# Altium schematic symbol library Open_Rally_Computer.SCHLIB: 55 symbols
Pins are listed as number, name and electrical type; pins without a type are passive.

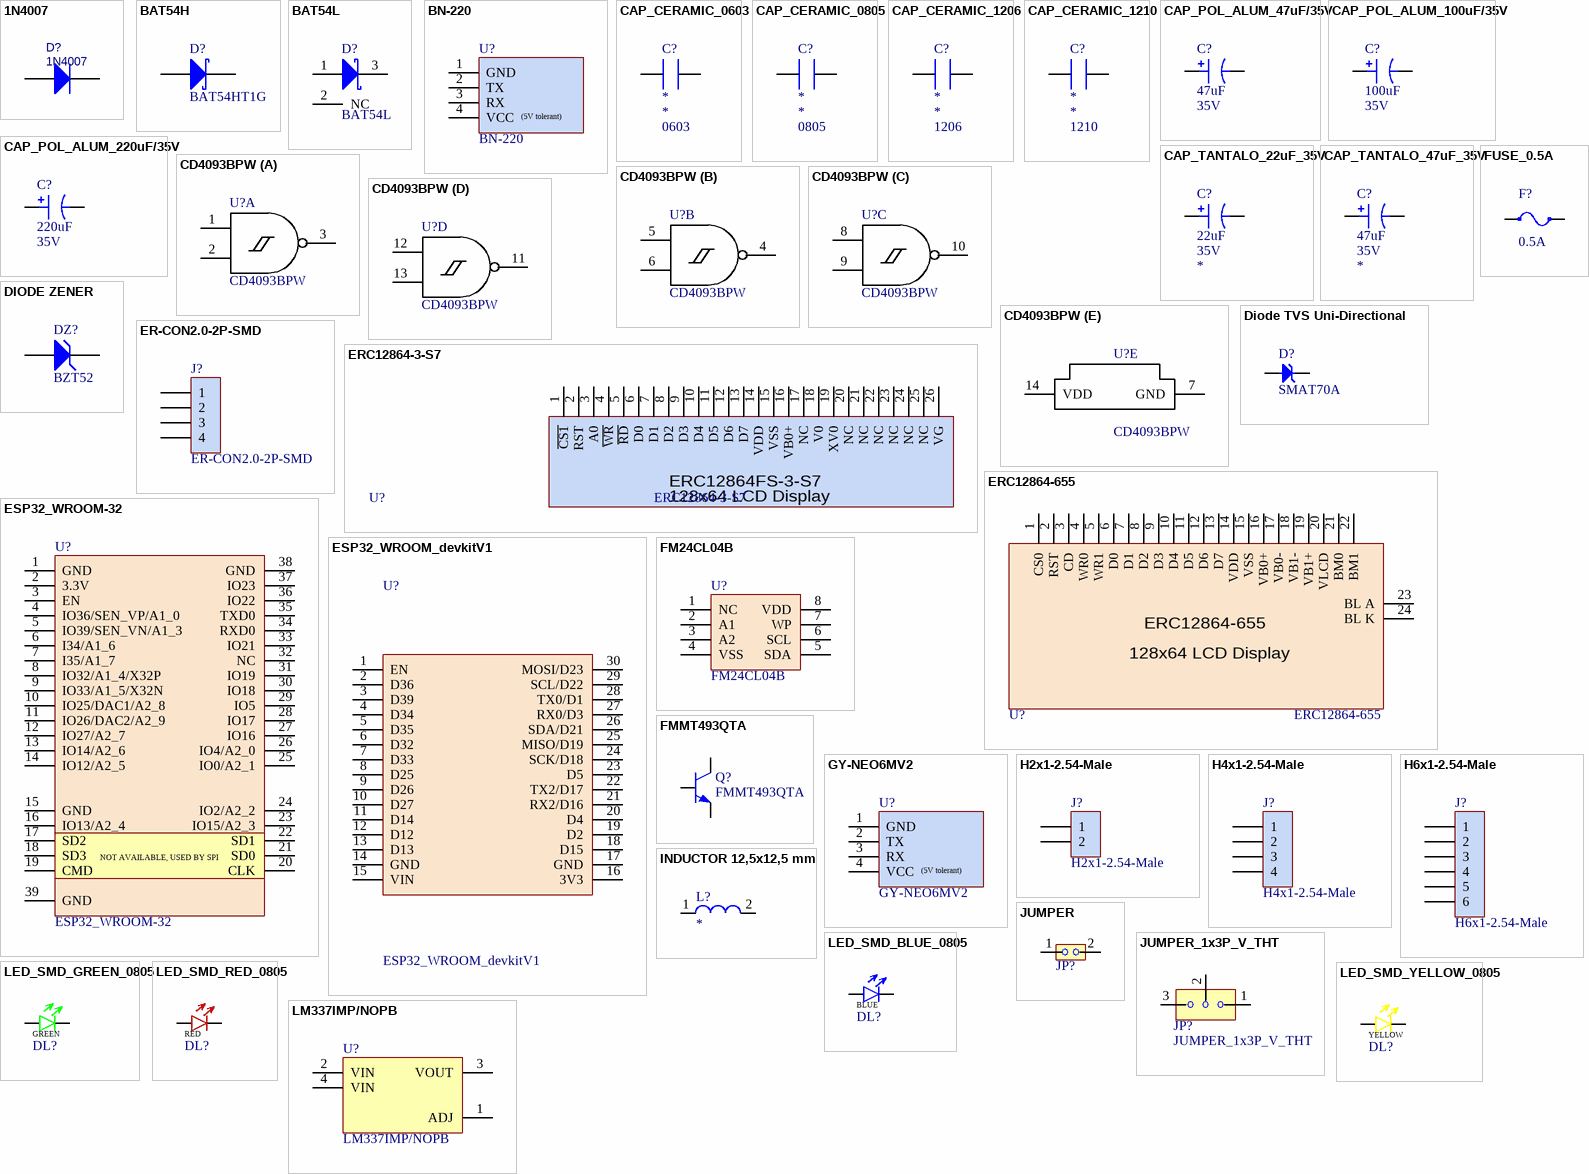
[diagram p0: symbols 1N4007 to LM337IMP/NOPB]

## 1N4007
designator D?
BOM_Manufacturer: Hottech; Contributor: LCSC; BOM_Supplier Part: C181127; BOM_Supplier: LCSC; BOM_Manufacturer Part: 1N4007; spicePre: D
footprint SOD-123F
pins: A, k K

## BAT54H
designator D?, comment BAT54HT1G
BAT54H, Schottky diode, 30v, 200mA SOD323; 03_Part Number: NSVBAT54HT1G; 04_Manufacturer: onsemi; Check Footprint: NO; 01_Type: DIODE; 02_Generic Part Number: BAT54H; 07_Mouser Part Number: 863-NSVBAT54HT1G; Case: SOD323; Check Symbol: NO; Value: BAT54HT1G
footprint SOD323
pins: 1 K, 2 A

## BAT54L
designator D?
Diodos y rectificadores Schottky 30V 200mW Single; 04_Manufacturer: Onsemi; 01_Type: DIODE SCHOTTKY; Value: BAT54L1G; Check Footprint: NO; 02_Generic Part Number: *; 03_Part Number: BAT54L; 05_RS Part Number: *; 06_Farnell Part Number: *; 07_Mouser Part Number: 863-BAT54LT1G; 08_Digi-Key Part Number: *; 09_helpURL: https://www.mouser.es/ProductDetail/onsemi/BAT54LT1G?qs=vLkC5FC1VN9WnG9k5eBnHQ%3D%3D; Check Symbol: NO
footprint SOT-23
pins: 1 A, 2 NC, 3 K

## BN-220
designator U?
Beitian UBX G7020 M8030 G-MOUSE supports GPS QZSS and SBAS; 01_Type: IC; 02_Generic Part Number: BN-220; 03_Part Number: BN-220; 04_Manufacturer: Beitian
footprint BN-220
pins: 1 GND, 2 TX, 3 RX, 4 VCC
text: (5V tolerant)

## CAP_CERAMIC_0603
designator C?  Case: 0603  (hidden comment: CAP_CERAMIC_0603)
Capacitor Ceramic 0603 No Polarized; 01_Type: CAPACITOR; 02_Generic Part Number: *; 03_Part Number: *; 04_Manufacturer: *; 05_RS Part Number: *; 06_Farnell Part Number: *; 07_Mouser Part Number: *; 08_Digi-Key Part Number: *; 09_helpURL: *; Check Footprint: NO; Check Symbol: NO; Value: *; Voltage: *
footprint C0603 (SMD-0603-CAP)
pins: 1, 2

## CAP_CERAMIC_0805
designator C?  Case: 0805  (hidden comment: CAP_CERAMIC_0805)
Capacitor Ceramic 0805 No Polarized; 01_Type: CAPACITOR; 02_Generic Part Number: *; 03_Part Number: *; 04_Manufacturer: *; 05_RS Part Number: *; 06_Farnell Part Number: *; 07_Mouser Part Number: *; 08_Digi-Key Part Number: *; 09_helpURL: *; Check Footprint: NO; Check Symbol: NO; Value: *; Voltage: *
footprint C0805 (SMD-0805-CAP)
pins: 1, 2

## CAP_CERAMIC_1206
designator C?  Case: 1206  (hidden comment: CAP_CERAMIC_1206)
Capacitor Ceramic 1206 No Polarized; 01_Type: CAPACITOR; 02_Generic Part Number: *; 03_Part Number: *; 04_Manufacturer: *; 05_RS Part Number: *; 06_Farnell Part Number: *; 07_Mouser Part Number: *; 08_Digi-Key Part Number: *; 09_helpURL: *; Check Footprint: NO; Check Symbol: NO; Value: *; Voltage: *
footprint C1206 (SMD-1206-CAP)
pins: 1, 2

## CAP_CERAMIC_1210
designator C?  Case: 1210  (hidden comment: CAP_CERAMIC_1210)
Capacitor Ceramic 1210 No Polarized; 01_Type: CAPACITOR; 02_Generic Part Number: *; 03_Part Number: *; 04_Manufacturer: *; 05_RS Part Number: *; 06_Farnell Part Number: *; 07_Mouser Part Number: *; 08_Digi-Key Part Number: *; 09_helpURL: *; Check Footprint: NO; Check Symbol: NO; Value: *; Voltage: *
footprint C1210 (SMD-1210-CAP)
pins: 1, 2

## CAP_POL_ALUM_47uF/35V
designator C?  value 47uF  Voltage: 35V  (hidden comment: CAP_POL_ALUM_47uF/35V)
Condensadores de aluminio con polímero orgánico 35Volt 47uF SMD 2KHr ESR=31 mOhms; 03_Part Number: A767KN476M1VLAE031; 04_Manufacturer: KEMET; 01_Type: CAPACITOR; ESR: 31 mOhm; Check Footprint: NO; 02_Generic Part Number: *; 05_RS Part Number: *; 06_Farnell Part Number: *; 07_Mouser Part Number: 80-A767KN476M1VLAE31; 08_Digi-Key Part Number: *; 09_helpURL: https://www.mouser.es/ProductDetail/KEMET/A767KN476M1VLAE031?qs=M6jHmRuQorXLXzCa4QAcmg%3D%3D; Case: *; Check Symbol: NO
footprint ALU-f
pins: 1, 2

## CAP_POL_ALUM_100uF/35V
designator C?  value 100uF  Voltage: 35V  (hidden comment: CAP_POL_ALUM_100uF/35V)
Condensadores de aluminio con polímero orgánico 35Vol 100uF SMD 2KHr ESR=29 mOhms; 03_Part Number: A767MU107M1VLAE029; 04_Manufacturer: KEMET; 01_Type: CAPACITOR; ESR: 29 mOhm; Check Footprint: NO; 02_Generic Part Number: *; 05_RS Part Number: *; 06_Farnell Part Number: *; 07_Mouser Part Number: 80-A767MU107M1VLAE29; 08_Digi-Key Part Number: *; 09_helpURL: https://www.mouser.es/ProductDetail/KEMET/A767MU107M1VLAE029?qs=M6jHmRuQorWXZ5S%2Fiuki7w%3D%3D; Case: *; Check Symbol: NO
footprint ALU-G
pins: 1, 2

## CAP_POL_ALUM_220uF/35V
designator C?  value 220uF  Voltage: 35V  (hidden comment: CAP_POL_ALUM_220uF/35V)
Condensadores de aluminio con polímero orgánico 35Vol 220uF SMD 2KHr ESR=28 mOhms; 03_Part Number: A767MU227M1VLAE028; 04_Manufacturer: KEMET; 01_Type: CAPACITOR; ESR: 28 mOhm; Check Footprint: NO; 02_Generic Part Number: *; 05_RS Part Number: *; 06_Farnell Part Number: *; 07_Mouser Part Number: 80-A767MU227M1VLAE28; 08_Digi-Key Part Number: *; 09_helpURL: https://www.mouser.es/ProductDetail/KEMET/A767MU227M1VLAE028?qs=M6jHmRuQorXHRaPh7tbgIw%3D%3D; Case: *; Check Symbol: NO
footprint ALU-G
pins: 1, 2

## CAP_TANTALO_22uF_35V
designator C?  value 22uF  Voltage: 35V  (hidden comment: CAP_TANTALO_22uF_35V)
Capacitadores de tantalio - SMD sólido 35V 22uF 10% 2917 ESR= 60 mOhm; 03_Part Number: TPME226K035R0060; 04_Manufacturer: KYOCERA AVX; 01_Type: CAPACITOR; Check Footprint: NO; 02_Generic Part Number: *; 05_RS Part Number: *; 06_Farnell Part Number: *; 07_Mouser Part Number: 581-TPME226K035R0060; 08_Digi-Key Part Number: 478-3305-1-ND; 09_helpURL: *; Check Symbol: NO; Case: *
footprint C2917_POL_(CASE_D,E) (SMD-2917-CAP_POL_(CASE D,E))
pins: 1, 2

## CAP_TANTALO_47uF_35V
designator C?  value 47uF  Voltage: 35V  (hidden comment: CAP_TANTALO_47uF_35V)
Capacitadores de tantalio - SMD sólido 35V 47uF 10% 2917 ESR= 55 mOhm; 03_Part Number: TPME476K035R0055; 04_Manufacturer: KYOCERA AVX; 01_Type: CAPACITOR; Check Footprint: NO; 02_Generic Part Number: *; 05_RS Part Number: *; 06_Farnell Part Number: *; 07_Mouser Part Number: 581-TPME476K035R0055; 08_Digi-Key Part Number: *; 09_helpURL: *; Check Symbol: NO; Case: *
footprint C2917_POL_(CASE_D,E) (SMD-2917-CAP_POL_(CASE D,E))
pins: 1, 2

## CD4093BPW
designator U?
NAND Gate IC 4 Channel 14-TSSOP; 04_Manufacturer: Texas Instruments; Check Footprint: NO; 09_helpURL: https://www.digikey.es/es/products/detail/texas-instruments/CD4093BPW/525964; 01_Type: IC; 02_Generic Part Number: *; 03_Part Number: CD4093BPW; 05_RS Part Number: *; 06_Farnell Part Number: *; 07_Mouser Part Number: *; Value: CD4093BPW; 08_Digi-Key Part Number: 296-14146-5-ND; Check Symbol: NO
footprint TSSOP-14
part A pins: 1 A, 2 B, 3 J
part B pins: 4 K, 5 C, 6 D
part C pins: 8 E, 9 F, 10 L
part D pins: 11 M, 12 G, 13 H
part E pins: 7 GND, 14 VDD

## Diode TVS Uni-Directional
designator D?, comment SMAT70A
TVS DIODE 70V 400W SMA; 03_Part Number: SMAT70A-13-F; 04_Manufacturer: Diodes Incorporated; Check Footprint: NO; 01_Type: DIODE; 02_Generic Part Number: *; 05_RS Part Number: *; 06_Farnell Part Number: *; 07_Mouser Part Number: *; 08_Digi-Key Part Number: SMAT70A-FDITR-ND; 09_helpURL: https://www.digikey.es/es/products/detail/diodes-incorporated/SMAT70A-13-F/804884; Value: SMAT70A; Check Symbol: NO
footprint DO-214AC (DO-214AC, SMA)
pins: A, K

## DIODE ZENER
designator DZ?, comment BZT52
General-purpose Zener diode, 500mW, 2.4V to 75V, SOD123 package; 04_Manufacturer: Nexperia; 02_Generic Part Number: BZT52 Series; 01_Type: DIODE ZENER; Check Footprint: NO; 03_Part Number: *; 05_RS Part Number: *; 06_Farnell Part Number: *; 07_Mouser Part Number: *; 09_helpURL: *; 08_Digi-Key Part Number: *; Value: *; Check Symbol: NO
footprint SOD123_AK
pins: A, K

## ER-CON2.0-2P-SMD
designator J?
2pin 2mm pitch smd connector; 01_Type: Connectors
footprint ER-CON2.0-2P-SMD
pins: 1 (power), 2 (power), 3 (power), 4 (power)

## ERC12864-3-S7
designator U?
2.9"COG LCD Module 128x64 Display Arduino,ST7567S,Black on White; 02_Generic Part Number: ERC12864-655; 04_Manufacturer: EastRising; 01_Type: IC; 03_Part Number: ERC12864-655; 09_helpURL: https://www.buydisplay.com/2-8-inch-128x64-graphic-module-serial-display-spi-lcd-w-optl-touch-screen
footprint ER-CON26HB-1
pins: 1 ~{CS1}, 2 RST, 3 A0, 4  ~{WR}, 5 ~{RD}, 6 D0, 7 D1, 8 D2, 9 D3, 10 D4, 11 D5, 12 D6, 13 D7, 14 VDD, 15 VSS, 16 VB0+, 17 NC, 18 V0, 19 XV0, 20 NC, 21 NC, 22 NC, 23 NC, 24 NC, 25 NC, 26 VG
text: ERC12864FS-3-S7; 128x64 LCD Display

## ERC12864-655
designator U?
2.8"128x64 Graphic Module Serial Display SPI LCD w/OPTL Touch Screen; 04_Manufacturer: EastRising; 01_Type: IC; 02_Generic Part Number: ERC12864-655; 03_Part Number: ERC12864-655; 09_helpURL: https://www.buydisplay.com/2-8-inch-128x64-graphic-module-serial-display-spi-lcd-w-optl-touch-screen
footprint ERC12864-655
pins: 1 CS0, 2 RST, 3 CD, 4 WR0, 5 WR1, 6 D0, 7 D1, 8 D2, 9 D3, 10 D4, 11 D5, 12 D6, 13 D7, 14 VDD, 15 VSS, 16 VB0+, 17 VB0-, 18 VB1-, 19 VB1+, 20 VLCD, 21 BM0, 22 BM1, 23 BL A, 24 BL K
text: 128x64 LCD Display

## ESP32_WROOM-32
designator U?
Módulos multiprotocolo SMD Module ESP32-WROOM-32E, ESP32-D0WD-V3, 16 MB SPI flash, PCB antenna; 03_Part Number: ESP32-WROOM-32E-N16; 04_Manufacturer: Espressif Systems; 01_Type: IC; 02_Generic Part Number: ESP32-WROOM-32; 07_Mouser Part Number: 356-ESP32WRM32E128PH; 09_helpURL: https://docs.espressif.com/projects/esp-idf/en/latest/esp32/hw-reference/esp32/get-started-devkitc.html
footprint ESP32_WROOM_32S
pins: 1 GND, 2 3.3V, 3 EN, 4 IO36/SEN_VP/A1_0, 5 IO39/SEN_VN/A1_3, 6 I34/A1_6, 7 I35/A1_7, 8 IO32/A1_4/X32P, 9 IO33/A1_5/X32N, 10 IO25/DAC1/A2_8, 11 IO26/DAC2/A2_9, 12 IO27/A2_7, 13 IO14/A2_6, 14 IO12/A2_5, 15 GND, 16 IO13/A2_4, 17 SD2, 18 SD3, 19 CMD, 20 CLK, 21 SD0, 22 SD1, 23 IO15/A2_3, 24 IO2/A2_2, 25 IO0/A2_1, 26 IO4/A2_0, 27 IO16, 28 IO17, 29 IO5, 30 IO18, 31 IO19, 32 NC, 33 IO21, 34 RXD0, 35 TXD0, 36 IO22, 37 IO23, 38 GND, 39 GND
text: NOT AVAILABLE, USED BY SPI

## ESP32_WROOM_devkitV1
designator U?
Módulos multiprotocolo SMD Module ESP32-WROOM-32E, ESP32-D0WD-V3, 16 MB SPI flash, PCB antenna; 03_Part Number: ESP32-WROOM-32E-N16; 04_Manufacturer: Espressif Systems; 01_Type: IC; 02_Generic Part Number: ESP32-WROOM; 07_Mouser Part Number: 356-ESP32WRM32E128PH; 09_helpURL: https://docs.espressif.com/projects/esp-idf/en/latest/esp32/hw-reference/esp32/get-started-devkitc.html
footprint ESP32_WROOM_32S_devkitV1
pins: 1 EN, 2 D36, 3 D39, 4 D34, 5 D35, 6 D32, 7 D33, 8 D25, 9 D26, 10 D27, 11 D14, 12 D12, 13 D13, 14 GND, 15 VIN, 16 3V3, 17 GND, 18 D15, 19 D2, 20 D4, 21 RX2/D16, 22 TX2/D17, 23 D5, 24 SCK/D18, 25 MISO/D19, 26 SDA/D21, 27 RX0/D3, 28 TX0/D1, 29 SCL/D22, 30 MOSI/D23

## FM24CL04B
designator U?
F-RAM 4Kb Serial I2C 3V FRAM; 03_Part Number: FM24CL04B-GTR; 04_Manufacturer: Infineon Technologies; 01_Type: IC; 02_Generic Part Number: FM24CL04B; 07_Mouser Part Number: 877-FM24CL04B-GTR
footprint SOIC-8N (SOIC 8, Pitch 1.27mm - Body 4x5mm, IPC Medium Density)
pins: 1 NC, 2 A1, 3 A2, 4 VSS, 5 SDA, 6 SCL, 7 WP, 8 VDD

## FMMT493QTA
designator Q?
Transistores bipolares - BJT 100V NPN Med PWR 1A Ic 2A Icm 500mW; 04_Manufacturer: Diodes Incorporated; 01_Type: BJT-P; Check Footprint: NO; 03_Part Number: FMMT493QTA; 07_Mouser Part Number: 621-FMMT493QTA; Value: FMMT493QTA; Check Symbol: NO
footprint SOT-23
pins: 1 B, 2 E, 3 C

## FUSE_0.5A
designator F?, comment 0.5A
Fusibles de montaje en superficie SLOW-BLOW MULTILAYER .5A AUTO; 03_Part Number: SF-1206SA050M-2; 04_Manufacturer: Bourns; 01_Type: FUSE; Check Footprint: NO; 07_Mouser Part Number: 652-SF-1206SA050M-2; Check Symbol: NO
footprint R1206 (SMD-1206-RES)
pins: 1, 2

## GY-NEO6MV2
designator U?
uBlox Neo 6M breakout board; 04_Manufacturer: Beitian; 01_Type: IC; 02_Generic Part Number: GY-NEO6MV2; 03_Part Number: GY-NEO6MV2
footprint GY-NEO6MV2
pins: 1 GND, 2 TX, 3 RX, 4 VCC
text: (5V tolerant)

## H2x1-2.54-Male
designator J?
Header male 2x1 2.54mm; 01_Type: Connectors
footprint HDR_P254_2x1 (Header,vertical,2.54mm pitch;0.635mm lead width,2 pins,1 row,2 pins per row,5.10mm L X 2.54mm W X 6.84mm H body)
pins: 1 (power), 2 (power)

## H4x1-2.54-Male
designator J?
Header male 4x1 2.54mm; 01_Type: Connectors
footprint HDR_P254_4x1 (Header,vertical,2.54mm pitch;0.635mm lead width,2 pins,1 row,2 pins per row,5.10mm L X 2.54mm W X 6.84mm H body)
pins: 1 (power), 2 (power), 3 (power), 4 (power)

## H6x1-2.54-Male
designator J?
Header female 6x1 2.54mm; 01_Type: Connectors
footprint HDR_P254_6x1 (Header,vertical,2.54mm pitch;0.635mm lead width,2 pins,1 row,2 pins per row,5.10mm L X 2.54mm W X 6.84mm H body)
pins: 1 (power), 2 (power), 3 (power), 4 (power), 5 (power), 6 (power)

## INDUCTOR 12,5x12,5 mm
designator L?
FIXED IND SMD 12,5X12,5 mm; 01_Type: INDUCTOR; Check Footprint: NO; 02_Generic Part Number: *; 03_Part Number: *; 04_Manufacturer: *; 05_RS Part Number: *; 06_Farnell Part Number: *; 07_Mouser Part Number: *; 08_Digi-Key Part Number: *; 09_helpURL: *; Value: *; Check Symbol: NO
footprint IND_WURTH_WE-HCC_1210 (SMD High Current Cube Inductor (WE-HCC Series), Body 12.4x11.7mm)
pins: 1, 2

## JUMPER
designator JP?  (value not drawn)
Low-profile Circuit Jumper Connectors. Double row.; 03_Part Number: 67996-202HLF; 04_Manufacturer: Amphenol FCI; Check Footprint: NO; Value: *; 01_Type: JUMPER; 02_Generic Part Number: *; 05_RS Part Number: *; 06_Farnell Part Number: *; 07_Mouser Part Number: 649-67996-202HLF; 08_Digi-Key Part Number: *; 09_helpURL: https://www.mouser.es/ProductDetail/Amphenol-FCI/67996-202HLF?qs=p7Li5uGGkArMLPb%2FcgwrjQ%3D%3D; Check Symbol: NO
footprint HDRV2W64P254_1X2_510X280X684P (Header,vertical,2.54mm pitch;0.635mm lead width,2 pins,1 row,2 pins per row,5.10mm L X 2.54mm W X 6.84mm H body)
pins: 1, 2

## JUMPER_1x3P_V_THT
designator JP?
JUMPER HEADER 3POS SINGLE ROW 2,54mm THT Vertical; 03_Part Number: 0901200763; 04_Manufacturer: Molex; Check Footprint: NO; 02_Generic Part Number: *; 06_Farnell Part Number: *; 05_RS Part Number: *; 08_Digi-Key Part Number: WM8085-ND; 07_Mouser Part Number: *; 01_Type: JUMPER; 09_helpURL: https://www.digikey.es/es/products/detail/molex/0901200763/760800?s=N4IgTCBcDaIJwAYCMYEFoEHYBsBmEAugL5A; Value: JUMPER_1x3P_V_THT; Check Symbol: NO
footprint Header 1x03x2.54 Pin TH V (1x3x2.54 Pin Header TH V)
pins: 1, 2, 3

## LED_SMD_BLUE_0805
designator DL?  (value not drawn)
LED SMD 15deg Clear 0805 4mcd BLUE; 03_Part Number: 150080BS75000; 04_Manufacturer: Würth Elektronik; 01_Type: LED DIODE; Check Footprint: NO; 05_RS Part Number: *; 06_Farnell Part Number: *; 07_Mouser Part Number: *; 02_Generic Part Number: *; 08_Digi-Key Part Number: 732-4982-1-ND; Case: 0805; Value: BLUE; Check Symbol: NO
footprint LED_0805_BLUE
pins: A, C

## LED_SMD_GREEN_0805
designator DL?  (value not drawn)
LED SMD 15deg Clear 0805 4mcd GREEN; 03_Part Number: APHCM2012CGCK-F01; 04_Manufacturer: Kingbright; 01_Type: LED DIODE; Check Footprint: NO; 05_RS Part Number: *; 06_Farnell Part Number: *; 07_Mouser Part Number: *; 02_Generic Part Number: *; Case: 0805; 08_Digi-Key Part Number: 754-1094-1-ND; Value: GREEN; Check Symbol: NO
footprint LED_0805_GREEN
pins: A, C

## LED_SMD_RED_0805
designator DL?  (value not drawn)
LED SMD 15deg Clear 0805 4mcd RED; 03_Part Number: 150080RS75000; 04_Manufacturer: Würth Elektronik; 01_Type: LED DIODE; Check Footprint: NO; 05_RS Part Number: *; 06_Farnell Part Number: *; 07_Mouser Part Number: *; 02_Generic Part Number: *; Case: 0805; 08_Digi-Key Part Number: 732-4984-2-ND; Value: RED; Check Symbol: NO
footprint LED_0805_RED
pins: A, C

## LED_SMD_YELLOW_0805
designator DL?  (value not drawn)
LED SMD 15deg Clear 0805 4mcd YELLOW; 03_Part Number: 150080YS7500; 04_Manufacturer: Würth Elektronik; 01_Type: LED DIODE; Check Footprint: NO; 05_RS Part Number: *; 06_Farnell Part Number: *; 07_Mouser Part Number: *; 02_Generic Part Number: *; 08_Digi-Key Part Number: 732-4987-2-ND; Check Symbol: NO; Case: 0805; Value: YELLOW
footprint LED_0805_YELLOW
pins: A, C

## LM337IMP/NOPB
designator U?
1.2V to 37V, 1500mA Adjustable Negative Voltage, SOT-223 Package; 04_Manufacturer: Texas Instruments; 01_Type: REGULATOR; Check Footprint: NO; 02_Generic Part Number: *; 03_Part Number: LM337IMP/NOPB; 05_RS Part Number: *; 06_Farnell Part Number: *; 07_Mouser Part Number: *; 08_Digi-Key Part Number: *; 09_helpURL: *; Value: LM337IMP/NOPB; Part Number: LM337IMP/NOPB; Component Kind: Standard; Case: SOT-223; ComponentHeight: 1.75mm; Check Symbol: NO
footprint SOT-223-4
pins: 1 ADJ, 2 VIN, 3 VOUT, 4 VIN

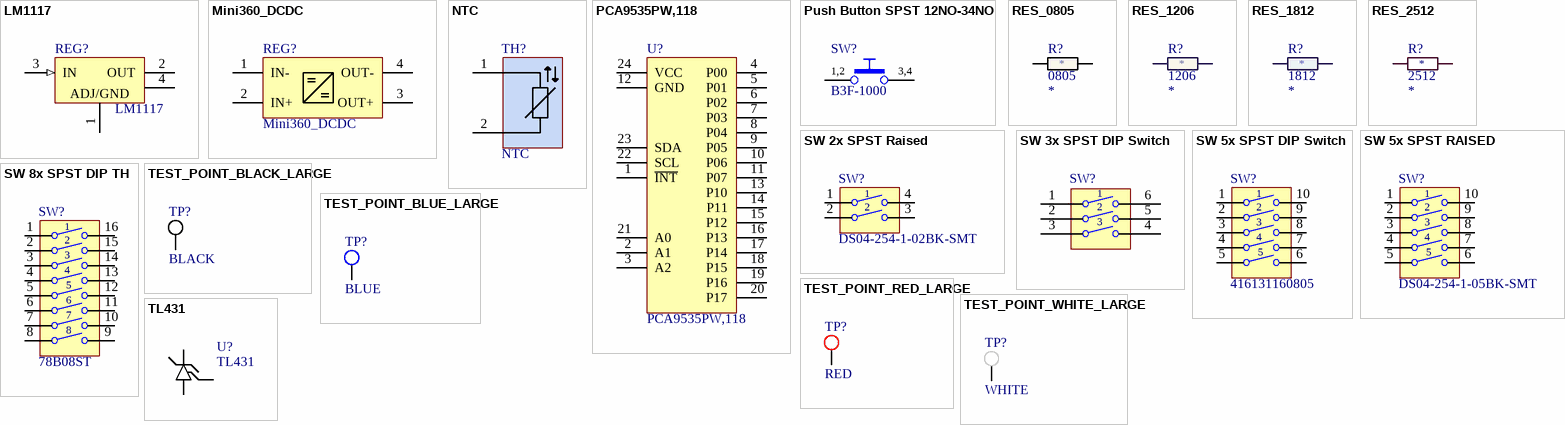
[diagram p1: symbols LM1117 to TL431]

## LM1117
designator REG?
Reguladores de voltaje LDO 800MA LDO LINEAR REG; 03_Part Number: LM1117MPX-3.3/NOPB; 04_Manufacturer: TEXAS INSTRUMENTS; 01_Type: Regulators; 02_Generic Part Number: LM1117; 07_Mouser Part Number: 926-LM1117MPX3.3NOPB; Value: LM1117; Component Kind: Standard; Footprint: SOT-223-4
footprint SOT-223-4
pins: 1 ADJ (power), 2 OUT (power), 3 IN (in), 4 OUT (power)
text: ADJ/GND

## Mini360_DCDC
designator REG?
Mini360 DC-DC Buck Converter Step Down Power Supply Module 4.75V-23V to 1V-17V 340KHz; 01_Type: Regulators; 02_Generic Part Number: Mini360_DCDC
footprint Mini360-DCDC
pins: 1 IN- (power), 2 IN+ (power), 3 OUT+ (power), 4 OUT- (power)

## NTC
designator TH?
NTC thermistor; 01_Type: Connector
footprint HDR_P254_2x1 (Header,vertical,2.54mm pitch;0.635mm lead width,2 pins,1 row,2 pins per row,5.10mm L X 2.54mm W X 6.84mm H body)
pins: 1 (power), 2 (power)

## PCA9535PW,118
designator U?
Interfaz. Extensores de E/S 16-BIT I2C FM TP GPIO INT; 04_Manufacturer: NXP Semiconductors; 01_Type: IC; 02_Generic Part Number: PCA9535; 03_Part Number: PCA9535PW,118; 07_Mouser Part Number: 771-PCA9535PW-T; Value: PCA9535PW,118
footprint TSSOP24 (TSSOP24, 0.65 pitch)
pins: 1 ~{INT}, 2 A1, 3 A2, 4 P00, 5 P01, 6 P02, 7 P03, 8 P04, 9 P05, 10 P06, 11 P07, 12 GND, 13 P10, 14 P11, 15 P12, 16 P13, 17 P14, 18 P15, 19 P16, 20 P17, 21 A0, 22 SCL, 23 SDA, 24 VCC

## Push Button SPST 12NO-34NO
designator SW?, comment B3F-1000
Push button switch, 24VDC 50mA SPST-NO (h=4.5mm); 04_Manufacturer: OMRON; Check Footprint: NO; 01_Type: SWITCH; 02_Generic Part Number: *; 03_Part Number: B3F-1000; 05_RS Part Number: *; 06_Farnell Part Number: *; 07_Mouser Part Number: *; 08_Digi-Key Part Number: SW400-ND; 09_helpURL: https://www.digikey.es/es/products/detail/omron-electronics-inc-emc-div/B3F-1000/33150; Value: B3F-1000; Check Symbol: NO
footprint PB_OMRON_B3F-1000 (6x6mm Model, Horizontal, Flat Plunger Type (without Ground Terminal) Pushbutton Switch, OMRON B3F Series)
pins: 1, 2, 3, 4
text: 1,2; 3,4

## RES_0805
designator R?  Case: 0805  (hidden comment: RES_0805)
Resistor 0805; Check Footprint: NO; 01_Type: RESISTOR; 02_Generic Part Number: *; 03_Part Number: *; 04_Manufacturer: *; 05_RS Part Number: *; 06_Farnell Part Number: *; 07_Mouser Part Number: *; 08_Digi-Key Part Number: *; 09_helpURL: *; Power: *; Check Symbol: NO; Value: *; Tolerance: *
footprint R0805 (SMD-0805-RES)
pins: 1, 2

## RES_1206
designator R?  Case: 1206  (hidden comment: RES_1206)
Resistor 1206; Check Footprint: NO; 01_Type: RESISTOR; 02_Generic Part Number: *; 03_Part Number: *; 04_Manufacturer: *; 05_RS Part Number: *; 06_Farnell Part Number: *; 07_Mouser Part Number: *; 08_Digi-Key Part Number: *; Power: *; 09_helpURL: *; Check Symbol: NO; Tolerance: *; Value: *
footprint R1206 (SMD-1206-RES)
pins: 1, 2

## RES_1812
designator R?  Case: 1812  (hidden comment: RES_1812)
Resistor 1812; Check Footprint: NO; 01_Type: RESISTOR; 02_Generic Part Number: *; 03_Part Number: *; 04_Manufacturer: *; 05_RS Part Number: *; 06_Farnell Part Number: *; 07_Mouser Part Number: *; 08_Digi-Key Part Number: *; Power: *; 09_helpURL: *; Check Symbol: NO; Tolerance: *; Value: *
footprint R1812 (Chip Resistor; Body 4.5 x 3.2 mm (LxW typ))
pins: 1, 2

## RES_2512
designator R?  Case: 2512  (hidden comment: RES_2512)
Resistor 2512; Check Footprint: NO; 01_Type: RESISTOR; 02_Generic Part Number: *; 03_Part Number: *; 04_Manufacturer: *; 05_RS Part Number: *; 06_Farnell Part Number: *; 07_Mouser Part Number: *; 08_Digi-Key Part Number: *; Power: *; 09_helpURL: *; Check Symbol: NO; Tolerance: *; Value: *
footprint R2512 (SMD-2512-RES)
pins: 1, 2

## SW 2x SPST Raised
designator SW?, comment DS04-254-1-02BK-SMT
SIP DIP Switch, SPST, 2.54 pitch, Raised actuator, SMT, 2 position, Blac; 04_Manufacturer: CUI Devices; Check Footprint: NO; 01_Type: SWITCH; 02_Generic Part Number: *; 03_Part Number: DS04-254-1-02BK-SMT; 05_RS Part Number: *; 06_Farnell Part Number: *; 07_Mouser Part Number: *; 08_Digi-Key Part Number: 2223-DS04-254-1-02BK-SMT-ND; 09_helpURL: https://www.digikey.es/es/products/detail/cui-devices/DS04-254-1-02BK-SMT/11310930?s=N4IgTCBcDaICIGUAMAWAtGArOgjGpYAQgNJoICyAKiALoC%2BQA; Value: DS04-254-1-02BK-SMT; Check Symbol: NO
footprint DS04-254-1-02BK-SMT (Switch, SPST, 2.54 pitch, Raised actuator, SMT, 2 position, Black)
pins: 1, 2, 3, 4

## SW 3x SPST DIP Switch
designator SW?
3 Way SPST SMD DIP, Flat, 100mA 50VDC, 1.27mm pitch; 03_Part Number: 416131160803; 04_Manufacturer: Wurth Elektronik; 01_Type: SWITCH; 07_Mouser Part Number: 710-416131160803
footprint 416131160803 (SMD Dip Switch, Small Compact, Raised Actuator, 3pin)
pins: 1, 2, 3, 4, 5, 6

## SW 5x SPST DIP Switch
designator SW?, comment 416131160805
5 Way SPST SMD DIP, Flat, 25mA 24VDC, 1.27mm pitch; 04_Manufacturer: Wurth Elektronik; 01_Type: SWITCH; Check Footprint: NO; 02_Generic Part Number: *; 03_Part Number: 416131160805; 05_RS Part Number: *; 06_Farnell Part Number: *; 07_Mouser Part Number: 710-416131160805; 08_Digi-Key Part Number: *; 09_helpURL: https://www.mouser.es/ProductDetail/Wurth-Elektronik/416131160805?qs=2kOmHSv6VfT1rqUsojuQog%3D%3D; Value: 416131160805; Check Symbol: NO
footprint SW_5P WURTH (Pitch 1.27mm,  5 Ways SPST Surface-Mount DIP Switch,)
pins: 1, 2, 3, 4, 5, 6, 7, 8, 9, 10

## SW 5x SPST RAISED
designator SW?, comment DS04-254-1-05BK-SMT
SIP DIP Switch, SPST, 2.54 pitch, Raised actuator, SMT, 5 position, Blac; 04_Manufacturer: CUI Devices; Check Footprint: NO; 01_Type: SWITCH; 02_Generic Part Number: *; 03_Part Number: DS04-254-1-05BK-SMT; 05_RS Part Number: *; 06_Farnell Part Number: *; 07_Mouser Part Number: 490-DS04254105BK-SMT; 08_Digi-Key Part Number: *; 09_helpURL: https://www.mouser.es/ProductDetail/CUI-Devices/DS04-254-1-05BK-SMT?qs=wnTfsH77Xs5Ndj%252Bt08dChA%3D%3D; Value: DS04-254-1-05BK-SMT; Check Symbol: NO
footprint SW_DS04-254-1-05BK-SMT (Switch, SPST, 2.54 pitch, Raised actuator, SMT, 5 position, Black)
pins: 1, 2, 3, 4, 5, 6, 7, 8, 9, 10

## SW 8x SPST DIP TH
designator SW?, comment 78B08ST
8 Way SPST TH DIP, Latch, 150mA 30VDC, 2.5mm pitch; 04_Manufacturer: Grayhill Inc.; 01_Type: SWITCH; Check Footprint: NO; 02_Generic Part Number: *; 03_Part Number: 78B08ST; 05_RS Part Number: *; 06_Farnell Part Number: *; 07_Mouser Part Number: *; 08_Digi-Key Part Number: GH7192-ND; 09_helpURL: https://www.digikey.es/es/products/detail/grayhill-inc/78B08ST/726250?s=N4IgTCBcDaIOwA4BCAGBBlAKiAugXyA; Value: 78B08ST; Check Symbol: NO
footprint SW_DIP_TH_8POS (MICROSWITCH 16 - MICROSWITCH DE 16 PINES SWITCHEA 1.16 SEGUN IPC-D-275 PARA CRISA_INDUSTRIA CREADO POR CARLOS VARELA)
pins: 1, 2, 3, 4, 5, 6, 7, 8, 9, 10, 11, 12, 13, 14, 15, 16

## TEST_POINT_BLACK_LARGE
designator TP?, comment value BLACK  (hidden comment: TEST_POINT)
Black Pin for 2.4mm PCB Thickness (1.8mm Hole); 03_Part Number: 5011; 04_Manufacturer: Keystone; 01_Type: Test Terminal; Check Footprint: NO; 05_RS Part Number: *; 06_Farnell Part Number: *; 07_Mouser Part Number: *; 02_Generic Part Number: *; 09_helpURL: https://www.digikey.es/es/products/detail/keystone-electronics/5011/255333; 08_Digi-Key Part Number: 36-5011-ND; Check Symbol: NO
footprint TEST_POINT_BLACK-LARGE (Black Test Point;1.8mm lead width,round, 3.17mm Dia X 11.3mm H body)
pins: 1

## TEST_POINT_BLUE_LARGE
designator TP?, comment value BLUE  (hidden comment: TEST_POINT)
Blue Pin for 2.4mm PCB Thickness (1.8mm Hole); 03_Part Number: 5127; 04_Manufacturer: Keystone; 01_Type: Test Terminal; Check Footprint: NO; 05_RS Part Number: *; 06_Farnell Part Number: *; 07_Mouser Part Number: *; 02_Generic Part Number: *; 09_helpURL: https://www.digikey.es/es/products/detail/keystone-electronics/5127/2170330?s=N4IgTCBcDaIMwDYC0BWAjGA7EgcgERAF0BfIA; 08_Digi-Key Part Number: 36-5127-ND; Check Symbol: NO
footprint TEST_POINT_BLUE-LARGE (Blue Test Point;1.8mm lead width,round, 3.17mm Dia X 11.3mm H body)
pins: 1

## TEST_POINT_RED_LARGE
designator TP?, comment value RED  (hidden comment: TEST_POINT)
Red Pin for 2.4mm PCB Thickness (1.8mm Hole); 03_Part Number: 5010; 04_Manufacturer: Keystone; 01_Type: Test Terminal; Check Footprint: NO; 05_RS Part Number: *; 06_Farnell Part Number: *; 07_Mouser Part Number: *; 02_Generic Part Number: *; 09_helpURL: https://www.digikey.es/es/products/detail/keystone-electronics/5010/255332; 08_Digi-Key Part Number: 36-5010-ND; Check Symbol: NO
footprint TEST_POINT_RED-LARGE (Red Test Point;1.8mm lead width,round, 3.17mm Dia X 11.3mm H body)
pins: 1

## TEST_POINT_WHITE_LARGE
designator TP?, comment value WHITE  (hidden comment: TEST_POINT)
White Pin for 2.4mm PCB Thickness (1.8mm Hole); 03_Part Number: 5012; 04_Manufacturer: Keystone; 01_Type: Test Terminal; Check Footprint: NO; 05_RS Part Number: *; 06_Farnell Part Number: *; 07_Mouser Part Number: *; 02_Generic Part Number: *; 09_helpURL: https://www.digikey.es/es/products/detail/keystone-electronics/5012/255334; 08_Digi-Key Part Number: 36-5012-ND; Check Symbol: NO
footprint TEST_POINT_WHITE-LARGE (White Test Point;1.8mm lead width,round, 3.17mm Dia X 11.3mm H body)
pins: 1

## TL431
designator U?
Programmable Voltage Reference SOT23; 03_Part Number: TL431AIDBZTG4; 04_Manufacturer: Texas Instruments; 01_Type: IC; Value: TL431AIDBZTG4; Check Footprint: NO; 02_Generic Part Number: *; 05_RS Part Number: *; 06_Farnell Part Number: *; 07_Mouser Part Number: *; 08_Digi-Key Part Number: TL431AIDBZTG4; 09_helpURL: https://www.digikey.es/es/products/detail/texas-instruments/TL431AIDBZTG4/1674956; Check Symbol: NO
footprint SOT-23
pins: 1 K, 2 REF, 3 A